# Altium footprint library WDFN8 (3x3).PcbLib: 1 footprints
Each footprint in its own frame and in the unit in brackets; x right, y up, seen from the top. Pads: shape width x height; smd on the part's side, far side on the other; paste and mask are expansions set on the pad; w line width, h text height; cw(c..) or ccw(c..) is an arc to the next point about the centre after c.
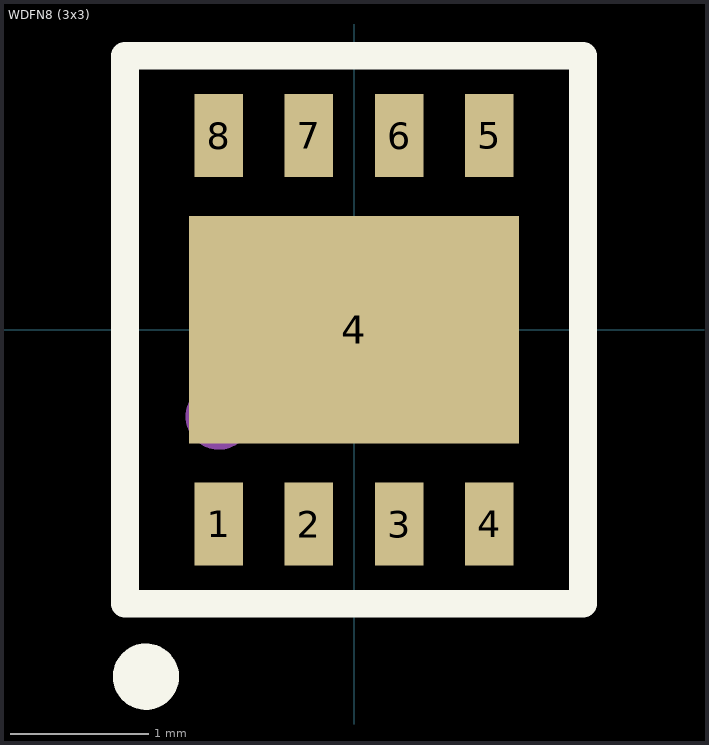
[diagram p0: the footprint, top view; thin cyan lines are the x and y axes]

## WDFN8 (3x3) [mm]
pads (9):
  rect 0.35x0.6 smd: 1(-0.975,-1.4) 2(-0.325,-1.4) 3(0.325,-1.4) 4(0.975,-1.4) 5(0.975,1.4) 6(0.325,1.4) 7(-0.325,1.4) 8(-0.975,1.4)
  rect 2.38x1.64 smd: 4(0,0)
Top Overlay:
  circle w0.254: c-1.5,-2.5 r0.112
  lines w0.2: -1.651,-1.975 -1.651,1.975 1.651,1.975 1.651,-1.975 -1.651,-1.975
Top Assembly:
  circle w0.254: c-0.975,-0.625 r0.112
  lines w0.1: -1.651,-1.975 1.651,-1.975 1.651,1.975 -1.651,1.975 -1.651,-1.975
  text "'.Designator'" at -0.95,-0.325 h0.7
3D body: height 0.25, standoff 0, extent -1.5,-1.5 1.5,1.5